# Altium footprint library BGA6C40P2X3_95X149X50.PcbLib: 1 footprints
Each footprint in its own frame and in the unit in brackets; x right, y up, seen from the top. Pads: shape width x height; smd on the part's side, far side on the other; paste and mask are expansions set on the pad; w line width, h text height; cw(c..) or ccw(c..) is an arc to the next point about the centre after c.
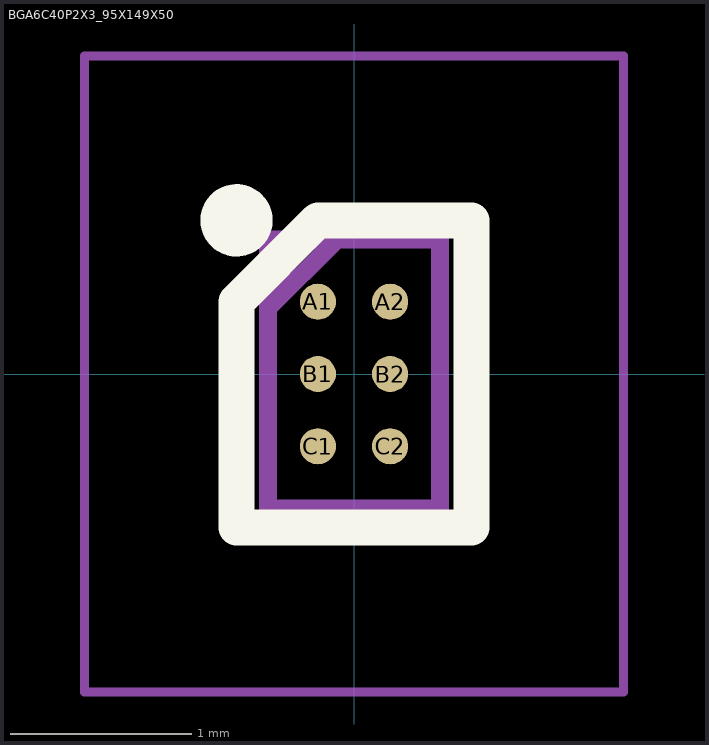
[diagram p0: the footprint, top view; thin cyan lines are the x and y axes]

## BGA6C40P2X3_95X149X50 [mm]
pads (6):
  round 0.2 smd: A1(-0.2,0.4) A2(0.2,0.4) B1(-0.2,0) B2(0.2,0) C1(-0.2,-0.4) C2(0.2,-0.4)
Top Overlay:
  circle w0.2: c-0.65,0.85 r0.1
  lines w0.2: -0.65,-0.85 0.65,-0.85 0.65,0.85 -0.2,0.85 -0.65,0.4 -0.65,-0.85
Mechanical 15:
  lines w0.1: -0.475,0.365 -0.095,0.745 ; -0.475,-0.745 0.475,-0.745 0.475,0.745 -0.475,0.745 -0.475,-0.745
Mechanical 20:
  lines w0.05: -1.49,-1.76 1.49,-1.76 1.49,1.76 -1.49,1.76 -1.49,-1.76